# Altium integrated library LD1117AV33.IntLib: 1 symbol
Pins are listed as number, name and electrical type; pins without a type are passive.

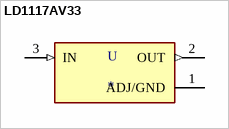
[diagram p0: symbol LD1117AV33]

## LD1117AV33
designator U
Linear Voltage Regulator IC 1 Output 1A TO-220AB; MP: LD1117AV33; MF: STMicroelectronics; SnapEDA_Link: https://www.snapeda.com/parts/LD1117AV33/STMicroelectronics/view-part/486946/?ref=snap; Value: *; Package: TO-220 STMicroelectronics; Price: None; Availability: Unavailable
footprint TO255P1020X450X1968-3
pins: 1 ADJ/GND, 2 OUT (out), 3 IN (in)